# Altium footprint library WM1387TR-ND.PcbLib: 1 footprints
Each footprint in its own frame and in the unit in brackets; x right, y up, seen from the top. Pads: shape width x height; smd on the part's side, far side on the other; paste and mask are expansions set on the pad; w line width, h text height; cw(c..) or ccw(c..) is an arc to the next point about the centre after c.
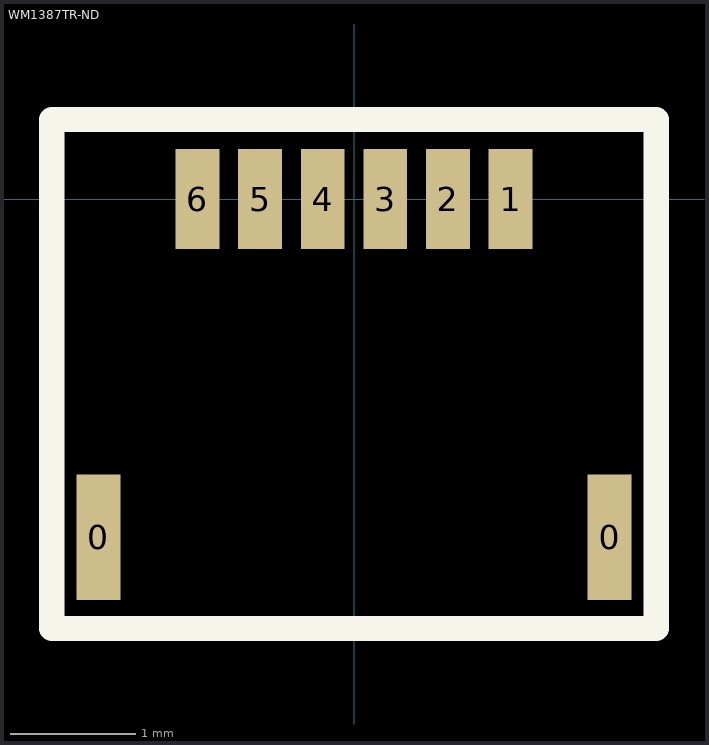
[diagram p0: the footprint, top view; thin cyan lines are the x and y axes]

## WM1387TR-ND [mm]
pads (8):
  rect 0.35x1 smd: 0(-2.04,-2.7) 0(2.04,-2.7)
  rect 0.35x0.8 smd: 1(1.25,0) 2(0.75,0) 3(0.25,0) 4(-0.25,0) 5(-0.75,0) 6(-1.25,0)
Top Overlay:
  lines w0.2: -2.413,-3.429 -2.413,0.635 2.286,0.635 2.413,0.635 2.413,-3.429 -2.413,-3.429
3D body: height 1.88, standoff -0.02, extent -2.35,-3.346 2.35,0.254